# Altium schematic symbol library Thermal_Camera.SchLib: 22 symbols
Pins are listed as number, name and electrical type; pins without a type are passive.

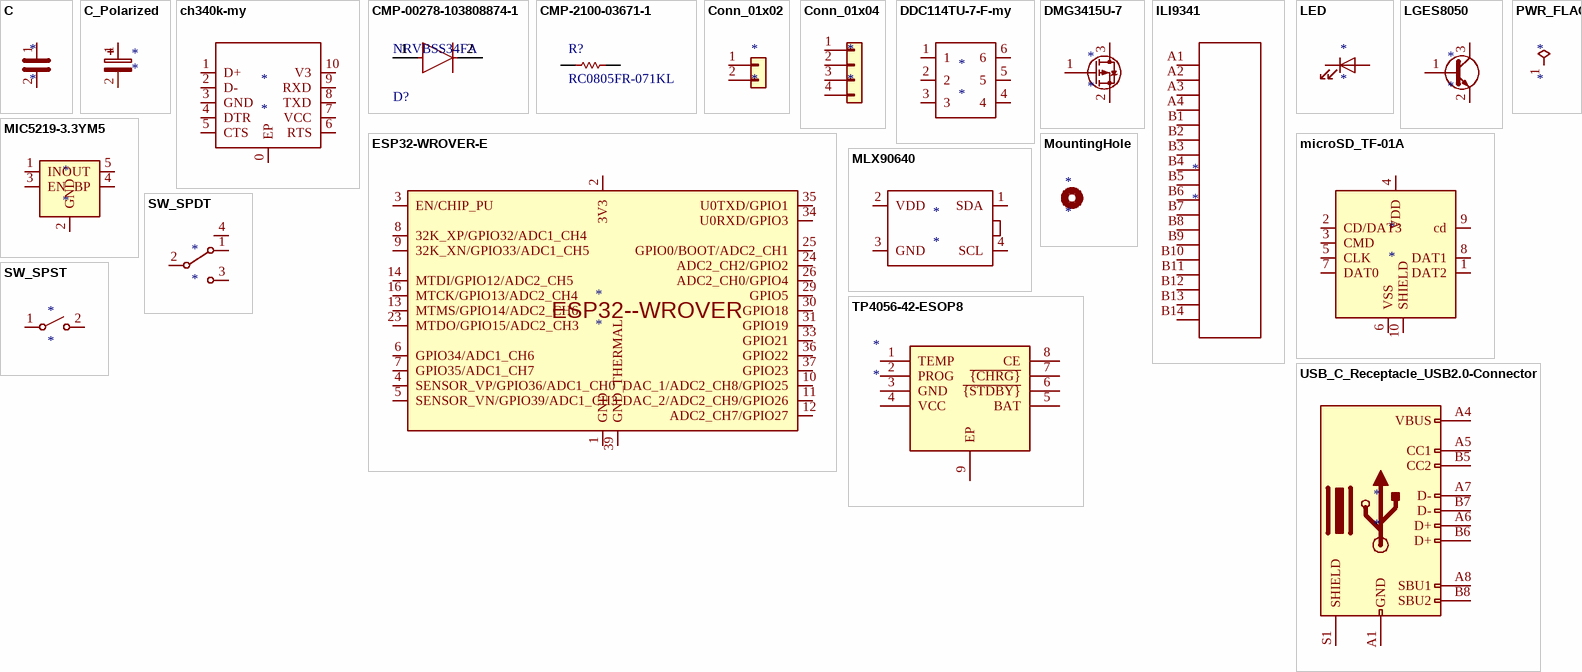
[diagram p0: symbols C to USB_C_Receptacle_USB2.0-Connector]

## C
designator *
footprint CAPC2013X70X45NL10T25 (Chip Capacitor, 2-Leads, Body 2.00x1.25mm, IPC Medium Density)
pins: 1, 2

## C_Polarized
designator *
footprint Elco capacitor
pins: 1, 2

## ch340k-my
designator *
footprint SOP100P600X160-11N
pins: 0 EP, 1 D+, 2 D-, 3 GND, 4 DTR, 5 CTS, 6 RTS, 7 VCC, 8 TXD, 9 RXD, 10 V3

## CMP-00278-103808874-1
designator D?, comment NRVBSS34FA
NRVBSS34FA Schottky Barrier Rectifier Diode 40V 3A 2-Pin SOD−123FL T/R; Manufacturer Lifecycle Status: ACTIVE; NexarPartId: 103808874; Max Junction Temperature (Tj): 125°C; Capacitance: 152pF; Peak Reverse Current: 500µA; Max Forward Surge Current (Ifsm): 80A; RoHS: Compliant; Forward Current: 3A; Height: 1.43mm; Max Operating Temperature: 125°C; Min Operating Temperature: -55°C; Lifecycle Status: Production; Max Repetitive Reverse Voltage (Vrrm): 40V; Reverse Voltage: 40V
footprint NRVBSS34FA
pins: 1, 2

## CMP-2100-03671-1
designator R?, comment RC0805FR-071KL
Chip Resistor, 1 KOhm, +/- 1%, 125 mW, -55 to 155 degC, 0805 (2012 Metric), RoHS, Tape and Reel; Manufacturer: Yageo; Temperature Coefficient: 100ppm/degreesC; Voltage Rating (DC): 150V; Max Power Dissipation: 125mW; Resistance: 1KOhm; Number of Pins: 2; Number of Terminations: 2; Datasheet URL: http://www.yageo.com/NewPortal/yageodocoutput?fileName=/pdf/R-Chip/PYu-RC_Group_51_RoHS_L_5.pdf; Length: 0.079inch; Package Description: 2-Pin Surface Mounted Device, Body 2 x 1.25 mm; Depth: 1.25mm; Height: 0.024inch; Military Standard: Not; Case/Package: 0805; Package Reference: 0805; RoHSCompliant: true; Lead Free: LeadFree; Packaging: TapeandReel; Package Quantity: 1; Datasheet Version: Rev. 5, 10/2016; Tolerance: 1%; Min Operating Temperature: -55degC; Voltage Rating: 150V; Composition: ThickFilm; Case Code (Imperial): 0805; Power Rating: 125mW; Width: 0.049inch; Case Code (Metric): 2012; Manufacturer URL: http://www.yageo.com/; Max Operating Temperature: 155degC; REACH SVHC: Unknown; Termination: SMD/SMT
footprint RESC2013X70X40NL20T20 (Chip Resistor, 2-Leads, Body 2.2x1.35mm, IPC Medium Density)
pins: 1, 2

## Conn_01x02
designator *
footprint connector 2pin (Female Header, Pitch 5mm, 1 x 2 Position, Height 10mm)
pins: 1 Pin_1, 2 Pin_2

## Conn_01x04
designator *
footprint connector 4pin (2.00mm SMT Male Horizontal Shrouded Header, 4p)
pins: 1 Pin_1, 2 Pin_2, 3 Pin_3, 4 Pin_4

## DDC114TU-7-F-my
designator *
footprint DDC114TU-7-F
pins: 1, 2, 3, 4, 5, 6

## DMG3415U-7
designator *
footprint DMG3415U-7
pins: 1 G, 2 S, 3 D

## ESP32-WROVER-E
designator *
footprint FP-ESP32-WROVER-I-MFG
pins: 1 GND, 2 3V3, 3 EN/CHIP_PU, 4 SENSOR_VP/GPIO36/ADC1_CH0, 5 SENSOR_VN/GPIO39/ADC1_CH3, 6 GPIO34/ADC1_CH6, 7 GPIO35/ADC1_CH7, 8 32K_XP/GPIO32/ADC1_CH4, 9 32K_XN/GPIO33/ADC1_CH5, 10 DAC_1/ADC2_CH8/GPIO25, 11 DAC_2/ADC2_CH9/GPIO26, 12 ADC2_CH7/GPIO27, 13 MTMS/GPIO14/ADC2_CH6, 14 MTDI/GPIO12/ADC2_CH5, 15 GND hidden, 16 MTCK/GPIO13/ADC2_CH4, 23 MTDO/GPIO15/ADC2_CH3, 24 ADC2_CH2/GPIO2, 25 GPIO0/BOOT/ADC2_CH1, 26 ADC2_CH0/GPIO4, 29 GPIO5, 30 GPIO18, 31 GPIO19, 33 GPIO21, 34 U0RXD/GPIO3, 35 U0TXD/GPIO1, 36 GPIO22, 37 GPIO23, 38 GND hidden, 39 GND_THERMAL
text: ESP32-­WROVER

## ILI9341
designator *
footprint ILI9341
pins: A1 GND, A2 RESET, A3 SCL, A4 RS, B1 CS, B2 SDA, B3 SDO, B4 GND, B5 VDD, B6 LEDA, B7 LEDK1, B8 LEDK2, B9 LEDK3, B10 LEDK4, B11 XL, B12 YU, B13 XR, B14 YD

## LED
designator *
footprint LEDC2012X70N
pins: A 2, C 1

## LGES8050
designator *
footprint FP-SS8050-G-IPC_A
pins: 1 E, 2 B, 3 C

## MIC5219-3.3YM5
designator *
footprint FP-SOT23-5LD-PL-1-MFG
pins: 1 IN, 2 GND, 3 EN, 4 BP, 5 OUT

## microSD_TF-01A
designator *
footprint TF-01A
pins: 1 DAT2, 2 CD/DAT3, 3 CMD, 4 VDD, 5 CLK, 6 VSS, 7 DAT0, 8 DAT1, 9 cd, 10 SHIELD

## MLX90640
designator *
footprint FP-MLX90640ESF-BAA-000-TU-MFG
pins: 1 SDA, 2 VDD, 3 GND, 4 SCL

## MountingHole
designator *
footprint testpin

## PWR_FLAG
designator *  (graphical)
pins: 1 pwr

## SW_SPDT
designator *
footprint SW_MPB06-1C00-R-SMT-TR
pins: 1 A, 2 B, 3 C, 4

## SW_SPST
designator *
footprint SW_TS09-63-25-WT-160-SMT-TR
pins: 1 A, 2 B

## TP4056-42-ESOP8
designator *
footprint tp4056
pins: 1 TEMP, 2 PROG, 3 GND, 4 VCC, 5 BAT, 6 ~{{STDBY}}, 7 ~{{CHRG}}, 8 CE, 9 EP

## USB_C_Receptacle_USB2.0-Connector
designator *
footprint Type C USB Connector
pins: A1 GND, A4 VBUS, A5 CC1, A6 D+, A7 D-, A8 SBU1, A9 VBUS hidden, A12 GND hidden, B1 GND hidden, B4 VBUS hidden, B5 CC2, B6 D+, B7 D-, B8 SBU2, B9 VBUS hidden, B12 GND hidden, S1 SHIELD